# EAGLE library part SPV1040 (library CougsInSpace)
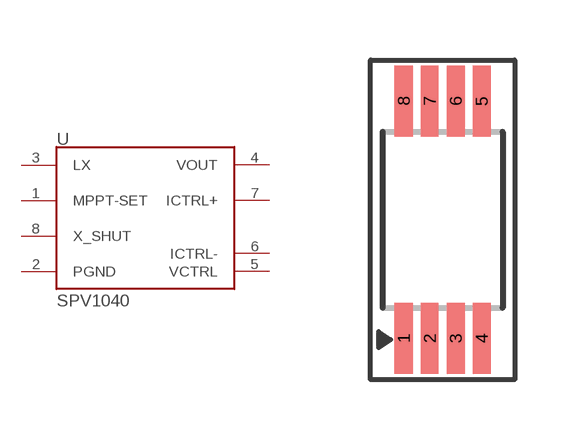
[diagram p21: symbol with the pads of TSSOP8; footprint TSSOP8]

Designator prefix U

## SPV1040  [TSSOP8]
1  MPPT-SET  in
2  PGND  pwr
3  LX  in
4  VOUT  out
5  VCTRL  in
6  ICTRL-  in
7  ICTRL+  in
8  X_SHUT  in

## Footprint TSSOP8 (pad centres in mm)
Thin Shrink Small Outline Plastic 14
smd 0.45 x 1.78: 1 -0.975,-2.97; 2 -0.325,-2.97; 3 0.325,-2.97; 4 0.975,-2.97; 5 0.975,2.97; 6 0.325,2.97; 7 -0.325,2.97; 8 -0.975,2.97